# EAGLE library part TPS6300X (library OpenSpace)
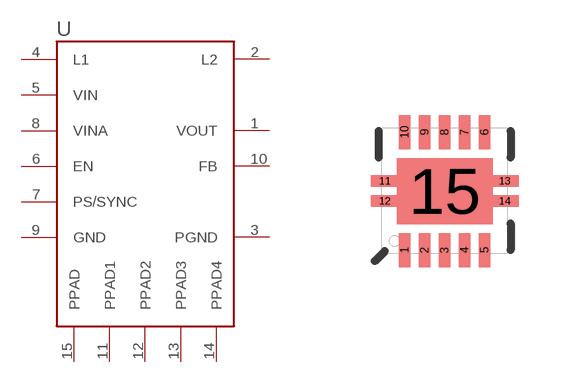
[diagram p3: symbol with the pads of QFN-10_PAD; footprint QFN-10_PAD]

Designator prefix -

## TPS6300X  [QFN-10_PAD]
1  VOUT
2  L2
3  PGND
4  L1
5  VIN
6  EN
7  PS/SYNC
8  VINA
9  GND
10  FB
11  PPAD1
12  PPAD2
13  PPAD3
14  PPAD4
15  PPAD

## Footprint QFN-10_PAD (pad centres in mm)
smd 0.297 x 0.85: 1 -1,-1.475; 2 -0.5,-1.475; 3 0,-1.475; 4 0.5,-1.475; 5 1,-1.475; 6 1,1.475; 7 0.5,1.475; 8 0,1.475; 9 -0.5,1.475; 10 -1,1.475
smd 0.7 x 0.28: 11 -1.5,0.25; 12 -1.5,-0.25; 13 1.5,0.25; 14 1.5,-0.25
smd 2.4 x 1.65: 15 0,0